# EAGLE library part DT13-48 (library usevolt)
Deutsch DT13-48PABCD 4x 12 pin pcb contact
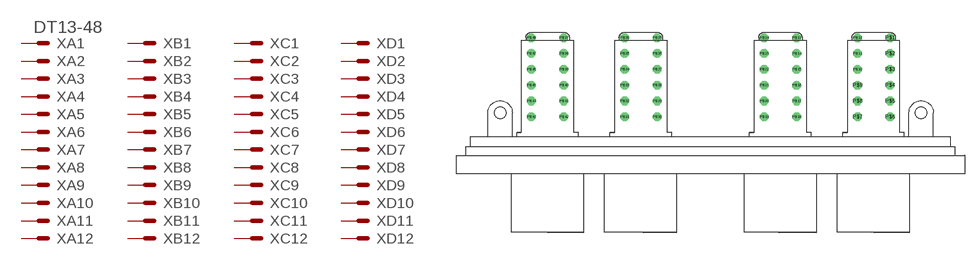
[diagram p19: symbol with the pads of DT13-48PABCD; footprint DT13-48PABCD]

Designator prefix X; gates A1=MV A2=M A3=M A4=M A5=M A6=M A7=M A8=M A9=M A10=M A11=M A12=M B1=M B2=M B3=M B4=M B5=M B6=M B7=M B8=M B9=M B10=M B11=M B12=M C1=M C2=M C3=M C4=M C5=M C6=M C7=M C8=M C9=M C10=M C11=M C12=M D1=M D2=M D3=M D4=M D5=M D6=M D7=M D8=M D9=M D10=M D11=M D12=M

## DT13-48  [DT13-48PABCD]
P$1  B1:S  pas
P$2  B2:S  pas
P$3  B3:S  pas
P$4  B4:S  pas
P$5  B5:S  pas
P$6  B6:S  pas
P$7  B7:S  pas
P$8  B8:S  pas
P$9  B9:S  pas
P$10  B10:S  pas
P$11  B11:S  pas
P$12  B12:S  pas
P$13  D1:S  pas
P$14  D2:S  pas
P$15  D3:S  pas
P$16  D4:S  pas
P$17  D5:S  pas
P$18  D6:S  pas
P$19  D7:S  pas
P$20  D8:S  pas
P$21  D9:S  pas
P$22  D10:S  pas
P$23  D11:S  pas
P$24  D12:S  pas
P$25  C1:S  pas
P$26  C2:S  pas
P$27  C3:S  pas
P$28  C4:S  pas
P$29  C5:S  pas
P$30  C6:S  pas
P$31  C7:S  pas
P$32  C8:S  pas
P$33  C9:S  pas
P$34  C10:S  pas
P$35  C11:S  pas
P$36  C12:S  pas
P$37  A1:S  pas
P$38  A2:S  pas
P$39  A3:S  pas
P$40  A4:S  pas
P$41  A5:S  pas
P$42  A6:S  pas
P$43  A7:S  pas
P$44  A8:S  pas
P$45  A9:S  pas
P$46  A10:S  pas
P$47  A11:S  pas
P$48  A12:S  pas

## Footprint DT13-48PABCD (pad centres in mm)
Deutsch DT13-48PABCD 4x 12 pin pcb contact
drill 1.6 octagon: P$1 50.292,26.67; P$2 50.292,22.225; P$3 50.292,17.78; P$4 50.292,13.335; P$5 50.292,8.89; P$6 50.292,4.445; P$7 41.173,4.445; P$8 41.173,8.89; P$9 41.173,13.335; P$10 41.173,17.78; P$11 41.173,22.225; P$12 41.173,26.67; P$13 24.13,26.67; P$14 24.13,22.225; P$15 24.13,17.78; P$16 24.13,13.335; P$17 24.13,8.89; P$18 24.13,4.445; P$19 15.011,4.445; P$20 15.011,8.89; P$21 15.011,13.335; P$22 15.011,17.78; P$23 15.011,22.225; P$24 15.011,26.67; P$25 -15.011,26.67; P$26 -15.011,22.225; P$27 -15.011,17.78; P$28 -15.011,13.335; P$29 -15.011,8.89; P$30 -15.011,4.445; P$31 -24.13,4.445; P$32 -24.13,8.89; P$33 -24.13,13.335; P$34 -24.13,17.78; P$35 -24.13,22.225; P$36 -24.13,26.67; P$37 -41.173,26.67; P$38 -41.173,22.225; P$39 -41.173,17.78; P$40 -41.173,13.335; P$41 -41.173,8.89; P$42 -41.173,4.445; P$43 -50.292,4.445; P$44 -50.292,8.89; P$45 -50.292,13.335; P$46 -50.292,17.78; P$47 -50.292,22.225; P$48 -50.292,26.67